# Altium schematic symbol library PI34xx-00.SchLib: 1 symbol
Pins are listed as number, name and electrical type; pins without a type are passive.

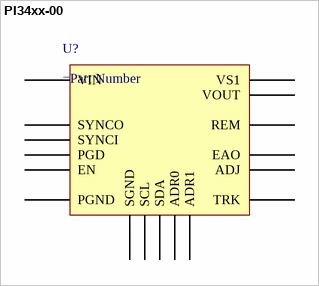
[diagram p0: symbol PI34xx-00]

## PI34xx-00
designator U?
pins: ADJ, ADR0, ADR1, EAO, EN, PGD, PGND, REM, SCL, SDA, SGND, SYNCI, SYNCO, TRK, VIN, VOUT, VS1